# EAGLE library part A6275 (library rnie04)
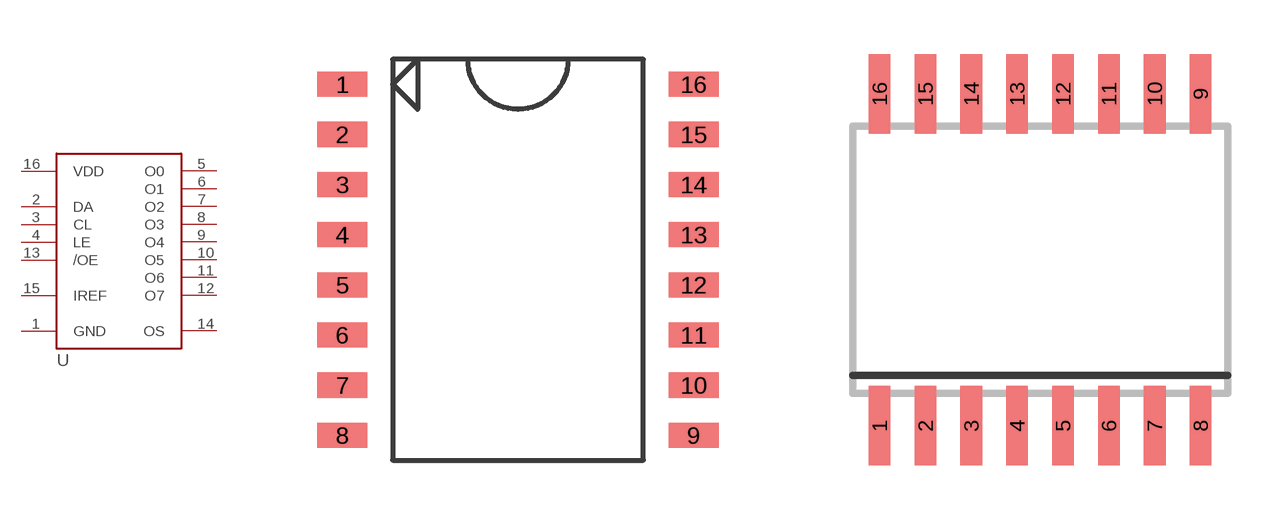
[diagram p3: symbol with the pads of SOIC16; footprints SOIC16, WSOIC16]

Designator prefix -

## A6275  [SOIC16]
1  GND  pwr
2  DA  in
3  CL  in
4  LE  in
5  O0  out
6  O1  out
7  O2  out
8  O3  out
9  O4  out
10  O5  out
11  O6  out
12  O7  out
13  /OE  in
14  OS  out
15  IREF  in
16  VDD  pwr

## A6275WSOIC16  [WSOIC16]
Pads as for SOIC16

## Footprint SOIC16 (pad centres in mm)
smd 1.27 x 0.635: 1 -2.54,2.54; 2 -2.54,1.27; 3 -2.54,0; 4 -2.54,-1.27; 5 -2.54,-2.54; 6 -2.54,-3.81; 7 -2.54,-5.08; 8 -2.54,-6.35; 9 6.35,-6.35; 10 6.35,-5.08; 11 6.35,-3.81; 12 6.35,-2.54; 13 6.35,-1.27; 14 6.35,0; 15 6.35,1.27; 16 6.35,2.54

## Footprint WSOIC16 (pad centres in mm)
smd 0.6 x 2.2: 1 -4.445,-4.6; 2 -3.175,-4.6; 3 -1.905,-4.6; 4 -0.635,-4.6; 5 0.635,-4.6; 6 1.905,-4.6; 7 3.175,-4.6; 8 4.445,-4.6; 9 4.445,4.6; 10 3.175,4.6; 11 1.905,4.6; 12 0.635,4.6; 13 -0.635,4.6; 14 -1.905,4.6; 15 -3.175,4.6; 16 -4.445,4.6